# Altium schematic symbol library RHF1201.Schlib: 1 symbol
Pins are listed as number, name and electrical type; pins without a type are passive.

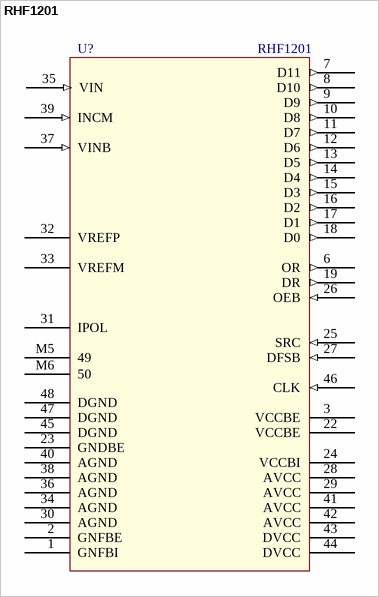
[diagram p0: symbol RHF1201]

## RHF1201
designator U?
Назначение: АЦП 12-бит 50 МГц; Наименование: RHF1201
footprint ECOPACK-48
pins: 1 GNFBI (oc), 2 GNFBE (oc), 3 VCCBE (oc), 6 OR (out), 7 D11 (out), 8 D10 (out), 9 D9 (out), 10 D8 (out), 11 D7 (out), 12 D6 (out), 13 D5 (out), 14 D4 (out), 15 D3 (out), 16 D2 (out), 17 D1 (out), 18 D0 (out), 19 DR (out), 22 VCCBE (oc), 23 GNDBE (oc), 24 VCCBI (oc), 25 SRC (in), 26 OEB (in), 27 DFSB (in), 28 AVCC (oc), 29 AVCC (oc), 30 AGND (oc), 31 IPOL (oc), 32 VREFP (oc), 33 VREFM (oc), 34 AGND (oc), 35 VIN (in), 36 AGND (oc), 37 VINB (in), 38 AGND (oc), 39 INCM (in), 40 AGND (oc), 41 AVCC (oc), 42 AVCC (oc), 43 DVCC (oc), 44 DVCC (oc), 45 DGND (oc), 46 CLK (in), 47 DGND (oc), 48 DGND (oc), M5 49, M6 50